# Altium footprint library Package_QFP.PcbLib: 99 footprints (part 4 of 7)
Each footprint in its own frame and in the unit in brackets; x right, y up, seen from the top. Pads: shape width x height; smd on the part's side, far side on the other; paste and mask are expansions set on the pad; w line width, h text height; cw(c..) or ccw(c..) is an arc to the next point about the centre after c.
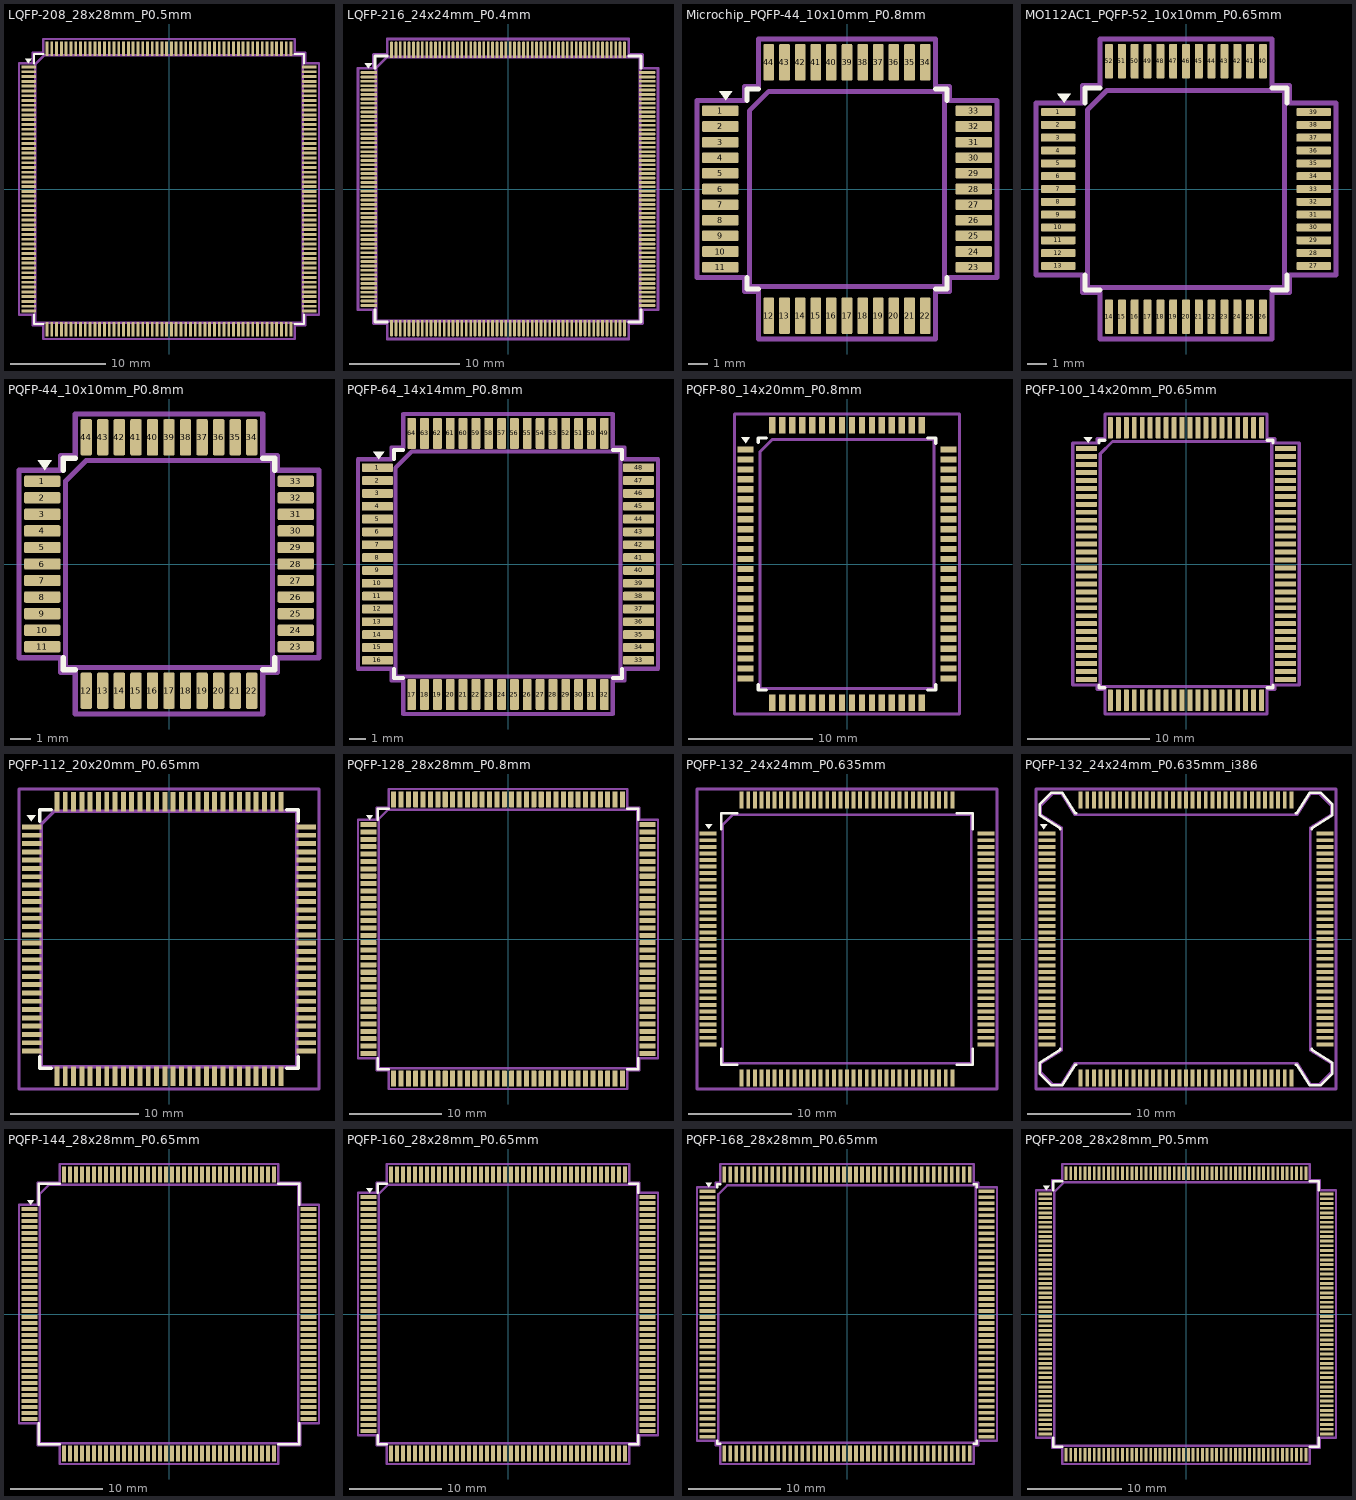
[diagram p3: the footprints below, top view; thin cyan lines are the x and y axes]

## LQFP-208_28x28mm_P0.5mm [mm]
pads (208):
  rrect25% 1.5x0.3 smd: 1(-14.675,12.75) 2(-14.675,12.25) 3(-14.675,11.75) 4(-14.675,11.25) 5(-14.675,10.75) 6(-14.675,10.25) 7(-14.675,9.75) 8(-14.675,9.25) 9(-14.675,8.75) 10(-14.675,8.25) 11(-14.675,7.75) 12(-14.675,7.25) 13(-14.675,6.75) 14(-14.675,6.25) 15(-14.675,5.75) 16(-14.675,5.25) 17(-14.675,4.75) 18(-14.675,4.25) 19(-14.675,3.75) 20(-14.675,3.25) 21(-14.675,2.75) 22(-14.675,2.25) 23(-14.675,1.75) 24(-14.675,1.25) 25(-14.675,0.75) 26(-14.675,0.25) 27(-14.675,-0.25) 28(-14.675,-0.75) 29(-14.675,-1.25) 30(-14.675,-1.75) 31(-14.675,-2.25) 32(-14.675,-2.75) 33(-14.675,-3.25) 34(-14.675,-3.75) 35(-14.675,-4.25) 36(-14.675,-4.75) 37(-14.675,-5.25) 38(-14.675,-5.75) 39(-14.675,-6.25) 40(-14.675,-6.75) 41(-14.675,-7.25) 42(-14.675,-7.75) 43(-14.675,-8.25) 44(-14.675,-8.75) 45(-14.675,-9.25) 46(-14.675,-9.75) 47(-14.675,-10.25) 48(-14.675,-10.75) 49(-14.675,-11.25) 50(-14.675,-11.75) 51(-14.675,-12.25) 52(-14.675,-12.75) 105(14.675,-12.75) 106(14.675,-12.25) 107(14.675,-11.75) 108(14.675,-11.25) 109(14.675,-10.75) 110(14.675,-10.25) 111(14.675,-9.75) 112(14.675,-9.25) 113(14.675,-8.75) 114(14.675,-8.25) 115(14.675,-7.75) 116(14.675,-7.25) 117(14.675,-6.75) 118(14.675,-6.25) 119(14.675,-5.75) 120(14.675,-5.25) 121(14.675,-4.75) 122(14.675,-4.25) 123(14.675,-3.75) 124(14.675,-3.25) 125(14.675,-2.75) 126(14.675,-2.25) 127(14.675,-1.75) 128(14.675,-1.25) 129(14.675,-0.75) 130(14.675,-0.25) 131(14.675,0.25) 132(14.675,0.75) 133(14.675,1.25) 134(14.675,1.75) 135(14.675,2.25) 136(14.675,2.75) 137(14.675,3.25) 138(14.675,3.75) 139(14.675,4.25) 140(14.675,4.75) 141(14.675,5.25) 142(14.675,5.75) 143(14.675,6.25) 144(14.675,6.75) 145(14.675,7.25) 146(14.675,7.75) 147(14.675,8.25) 148(14.675,8.75) 149(14.675,9.25) 150(14.675,9.75) 151(14.675,10.25) 152(14.675,10.75) 153(14.675,11.25) 154(14.675,11.75) 155(14.675,12.25) 156(14.675,12.75)
  rrect25% 0.3x1.5 smd: 53(-12.75,-14.675) 54(-12.25,-14.675) 55(-11.75,-14.675) 56(-11.25,-14.675) 57(-10.75,-14.675) 58(-10.25,-14.675) 59(-9.75,-14.675) 60(-9.25,-14.675) 61(-8.75,-14.675) 62(-8.25,-14.675) 63(-7.75,-14.675) 64(-7.25,-14.675) 65(-6.75,-14.675) 66(-6.25,-14.675) 67(-5.75,-14.675) 68(-5.25,-14.675) 69(-4.75,-14.675) 70(-4.25,-14.675) 71(-3.75,-14.675) 72(-3.25,-14.675) 73(-2.75,-14.675) 74(-2.25,-14.675) 75(-1.75,-14.675) 76(-1.25,-14.675) 77(-0.75,-14.675) 78(-0.25,-14.675) 79(0.25,-14.675) 80(0.75,-14.675) 81(1.25,-14.675) 82(1.75,-14.675) 83(2.25,-14.675) 84(2.75,-14.675) 85(3.25,-14.675) 86(3.75,-14.675) 87(4.25,-14.675) 88(4.75,-14.675) 89(5.25,-14.675) 90(5.75,-14.675) 91(6.25,-14.675) 92(6.75,-14.675) 93(7.25,-14.675) 94(7.75,-14.675) 95(8.25,-14.675) 96(8.75,-14.675) 97(9.25,-14.675) 98(9.75,-14.675) 99(10.25,-14.675) 100(10.75,-14.675) 101(11.25,-14.675) 102(11.75,-14.675) 103(12.25,-14.675) 104(12.75,-14.675) 157(12.75,14.675) 158(12.25,14.675) 159(11.75,14.675) 160(11.25,14.675) 161(10.75,14.675) 162(10.25,14.675) 163(9.75,14.675) 164(9.25,14.675) 165(8.75,14.675) 166(8.25,14.675) 167(7.75,14.675) 168(7.25,14.675) 169(6.75,14.675) 170(6.25,14.675) 171(5.75,14.675) 172(5.25,14.675) 173(4.75,14.675) 174(4.25,14.675) 175(3.75,14.675) 176(3.25,14.675) 177(2.75,14.675) 178(2.25,14.675) 179(1.75,14.675) 180(1.25,14.675) 181(0.75,14.675) 182(0.25,14.675) 183(-0.25,14.675) 184(-0.75,14.675) 185(-1.25,14.675) 186(-1.75,14.675) 187(-2.25,14.675) 188(-2.75,14.675) 189(-3.25,14.675) 190(-3.75,14.675) 191(-4.25,14.675) 192(-4.75,14.675) 193(-5.25,14.675) 194(-5.75,14.675) 195(-6.25,14.675) 196(-6.75,14.675) 197(-7.25,14.675) 198(-7.75,14.675) 199(-8.25,14.675) 200(-8.75,14.675) 201(-9.25,14.675) 202(-9.75,14.675) 203(-10.25,14.675) 204(-10.75,14.675) 205(-11.25,14.675) 206(-11.75,14.675) 207(-12.25,14.675) 208(-12.75,14.675)
F.SilkS:
  region: -14.713,13.16 -15.052,13.63 -14.373,13.63
  lines w0.254: -14.11,-13.16 -14.11,-14.11 -13.16,-14.11 ; -14.11,13.16 -14.11,14.11 -13.16,14.11 ; 13.16,-14.11 14.11,-14.11 14.11,-13.16 ; 13.16,14.11 14.11,14.11 14.11,13.16
Top Assembly:
  lines w0.254: -14,-14 14,-14 14,14 -13,14 -14,13 -14,-14
  text "'.Designator'" at -4.047,-0.84 h1
Top Courtyard:
  lines w0.254: -15.68,-13.15 -14.25,-13.15 -14.25,-14.25 -13.15,-14.25 -13.15,-15.68 13.15,-15.68 13.15,-14.25 14.25,-14.25 14.25,-13.15 15.68,-13.15 15.68,13.15 14.25,13.15 14.25,14.25 13.15,14.25 13.15,15.68 -13.15,15.68 -13.15,14.25 -14.25,14.25 -14.25,13.15 -15.68,13.15 -15.68,-13.15
Top Designator:
  text ".Designator" at -7.618,-0.508 h1.52

## LQFP-216_24x24mm_P0.4mm [mm]
pads (216):
  rrect25% 1.475x0.25 smd: 1(-12.662,10.6) 2(-12.662,10.2) 3(-12.662,9.8) 4(-12.662,9.4) 5(-12.662,9) 6(-12.662,8.6) 7(-12.662,8.2) 8(-12.662,7.8) 9(-12.662,7.4) 10(-12.662,7) 11(-12.662,6.6) 12(-12.662,6.2) 13(-12.662,5.8) 14(-12.662,5.4) 15(-12.662,5) 16(-12.662,4.6) 17(-12.662,4.2) 18(-12.662,3.8) 19(-12.662,3.4) 20(-12.662,3) 21(-12.662,2.6) 22(-12.662,2.2) 23(-12.662,1.8) 24(-12.662,1.4) 25(-12.662,1) 26(-12.662,0.6) 27(-12.662,0.2) 28(-12.662,-0.2) 29(-12.662,-0.6) 30(-12.662,-1) 31(-12.662,-1.4) 32(-12.662,-1.8) 33(-12.662,-2.2) 34(-12.662,-2.6) 35(-12.662,-3) 36(-12.662,-3.4) 37(-12.662,-3.8) 38(-12.662,-4.2) 39(-12.662,-4.6) 40(-12.662,-5) 41(-12.662,-5.4) 42(-12.662,-5.8) 43(-12.662,-6.2) 44(-12.662,-6.6) 45(-12.662,-7) 46(-12.662,-7.4) 47(-12.662,-7.8) 48(-12.662,-8.2) 49(-12.662,-8.6) 50(-12.662,-9) 51(-12.662,-9.4) 52(-12.662,-9.8) 53(-12.662,-10.2) 54(-12.662,-10.6) 109(12.662,-10.6) 110(12.662,-10.2) 111(12.662,-9.8) 112(12.662,-9.4) 113(12.662,-9) 114(12.662,-8.6) 115(12.662,-8.2) 116(12.662,-7.8) 117(12.662,-7.4) 118(12.662,-7) 119(12.662,-6.6) 120(12.662,-6.2) 121(12.662,-5.8) 122(12.662,-5.4) 123(12.662,-5) 124(12.662,-4.6) 125(12.662,-4.2) 126(12.662,-3.8) 127(12.662,-3.4) 128(12.662,-3) 129(12.662,-2.6) 130(12.662,-2.2) 131(12.662,-1.8) 132(12.662,-1.4) 133(12.662,-1) 134(12.662,-0.6) 135(12.662,-0.2) 136(12.662,0.2) 137(12.662,0.6) 138(12.662,1) 139(12.662,1.4) 140(12.662,1.8) 141(12.662,2.2) 142(12.662,2.6) 143(12.662,3) 144(12.662,3.4) 145(12.662,3.8) 146(12.662,4.2) 147(12.662,4.6) 148(12.662,5) 149(12.662,5.4) 150(12.662,5.8) 151(12.662,6.2) 152(12.662,6.6) 153(12.662,7) 154(12.662,7.4) 155(12.662,7.8) 156(12.662,8.2) 157(12.662,8.6) 158(12.662,9) 159(12.662,9.4) 160(12.662,9.8) 161(12.662,10.2) 162(12.662,10.6)
  rrect25% 0.25x1.475 smd: 55(-10.6,-12.662) 56(-10.2,-12.662) 57(-9.8,-12.662) 58(-9.4,-12.662) 59(-9,-12.662) 60(-8.6,-12.662) 61(-8.2,-12.662) 62(-7.8,-12.662) 63(-7.4,-12.662) 64(-7,-12.662) 65(-6.6,-12.662) 66(-6.2,-12.662) 67(-5.8,-12.662) 68(-5.4,-12.662) 69(-5,-12.662) 70(-4.6,-12.662) 71(-4.2,-12.662) 72(-3.8,-12.662) 73(-3.4,-12.662) 74(-3,-12.662) 75(-2.6,-12.662) 76(-2.2,-12.662) 77(-1.8,-12.662) 78(-1.4,-12.662) 79(-1,-12.662) 80(-0.6,-12.662) 81(-0.2,-12.662) 82(0.2,-12.662) 83(0.6,-12.662) 84(1,-12.662) 85(1.4,-12.662) 86(1.8,-12.662) 87(2.2,-12.662) 88(2.6,-12.662) 89(3,-12.662) 90(3.4,-12.662) 91(3.8,-12.662) 92(4.2,-12.662) 93(4.6,-12.662) 94(5,-12.662) 95(5.4,-12.662) 96(5.8,-12.662) 97(6.2,-12.662) 98(6.6,-12.662) 99(7,-12.662) 100(7.4,-12.662) 101(7.8,-12.662) 102(8.2,-12.662) 103(8.6,-12.662) 104(9,-12.662) 105(9.4,-12.662) 106(9.8,-12.662) 107(10.2,-12.662) 108(10.6,-12.662) 163(10.6,12.662) 164(10.2,12.662) 165(9.8,12.662) 166(9.4,12.662) 167(9,12.662) 168(8.6,12.662) 169(8.2,12.662) 170(7.8,12.662) 171(7.4,12.662) 172(7,12.662) 173(6.6,12.662) 174(6.2,12.662) 175(5.8,12.662) 176(5.4,12.662) 177(5,12.662) 178(4.6,12.662) 179(4.2,12.662) 180(3.8,12.662) 181(3.4,12.662) 182(3,12.662) 183(2.6,12.662) 184(2.2,12.662) 185(1.8,12.662) 186(1.4,12.662) 187(1,12.662) 188(0.6,12.662) 189(0.2,12.662) 190(-0.2,12.662) 191(-0.6,12.662) 192(-1,12.662) 193(-1.4,12.662) 194(-1.8,12.662) 195(-2.2,12.662) 196(-2.6,12.662) 197(-3,12.662) 198(-3.4,12.662) 199(-3.8,12.662) 200(-4.2,12.662) 201(-4.6,12.662) 202(-5,12.662) 203(-5.4,12.662) 204(-5.8,12.662) 205(-6.2,12.662) 206(-6.6,12.662) 207(-7,12.662) 208(-7.4,12.662) 209(-7.8,12.662) 210(-8.2,12.662) 211(-8.6,12.662) 212(-9,12.662) 213(-9.4,12.662) 214(-9.8,12.662) 215(-10.2,12.662) 216(-10.6,12.662)
F.SilkS:
  region: -12.7,10.985 -13.04,11.455 -12.36,11.455
  lines w0.254: -12.11,-10.985 -12.11,-12.11 -10.985,-12.11 ; -12.11,10.985 -12.11,12.11 -10.985,12.11 ; 10.985,-12.11 12.11,-12.11 12.11,-10.985 ; 10.985,12.11 12.11,12.11 12.11,10.985
Top Assembly:
  lines w0.254: -12,-12 12,-12 12,12 -11,12 -12,11 -12,-12
  text "'.Designator'" at -4.047,-0.84 h1
Top Courtyard:
  lines w0.254: -13.65,-10.98 -12.25,-10.98 -12.25,-12.25 -10.98,-12.25 -10.98,-13.65 10.98,-13.65 10.98,-12.25 12.25,-12.25 12.25,-10.98 13.65,-10.98 13.65,10.98 12.25,10.98 12.25,12.25 10.98,12.25 10.98,13.65 -10.98,13.65 -10.98,12.25 -12.25,12.25 -12.25,10.98 -13.65,10.98 -13.65,-10.98
Top Designator:
  text ".Designator" at -7.618,-0.508 h1.52

## Microchip_PQFP-44_10x10mm_P0.8mm [mm]
pads (44):
  rrect25% 1.875x0.55 smd: 1(-6.488,4) 2(-6.488,3.2) 3(-6.488,2.4) 4(-6.488,1.6) 5(-6.488,0.8) 6(-6.488,0) 7(-6.488,-0.8) 8(-6.488,-1.6) 9(-6.488,-2.4) 10(-6.488,-3.2) 11(-6.488,-4) 23(6.488,-4) 24(6.488,-3.2) 25(6.488,-2.4) 26(6.488,-1.6) 27(6.488,-0.8) 28(6.488,0) 29(6.488,0.8) 30(6.488,1.6) 31(6.488,2.4) 32(6.488,3.2) 33(6.488,4)
  rrect25% 0.55x1.875 smd: 12(-4,-6.488) 13(-3.2,-6.488) 14(-2.4,-6.488) 15(-1.6,-6.488) 16(-0.8,-6.488) 17(0,-6.488) 18(0.8,-6.488) 19(1.6,-6.488) 20(2.4,-6.488) 21(3.2,-6.488) 22(4,-6.488) 34(4,6.488) 35(3.2,6.488) 36(2.4,6.488) 37(1.6,6.488) 38(0.8,6.488) 39(0,6.488) 40(-0.8,6.488) 41(-1.6,6.488) 42(-2.4,6.488) 43(-3.2,6.488) 44(-4,6.488)
F.SilkS:
  region: -6.212,4.535 -6.552,5.005 -5.873,5.005
  lines w0.254: -5.11,-4.535 -5.11,-5.11 -4.535,-5.11 ; -5.11,4.535 -5.11,5.11 -4.535,5.11 ; 4.535,-5.11 5.11,-5.11 5.11,-4.535 ; 4.535,5.11 5.11,5.11 5.11,4.535
Top Assembly:
  lines w0.254: -5,-5 5,-5 5,5 -4,5 -5,4 -5,-5
  text "'.Designator'" at -4.047,-0.84 h1
Top Courtyard:
  lines w0.254: -7.68,-4.53 -5.25,-4.53 -5.25,-5.25 -4.53,-5.25 -4.53,-7.68 4.53,-7.68 4.53,-5.25 5.25,-5.25 5.25,-4.53 7.68,-4.53 7.68,4.53 5.25,4.53 5.25,5.25 4.53,5.25 4.53,7.68 -4.53,7.68 -4.53,5.25 -5.25,5.25 -5.25,4.53 -7.68,4.53 -7.68,-4.53
Top Designator:
  text ".Designator" at -7.618,-0.508 h1.52

## MO112AC1_PQFP-52_10x10mm_P0.65mm [mm]
pads (52):
  rrect25% 1.75x0.4 smd: 1(-6.475,3.9) 2(-6.475,3.25) 3(-6.475,2.6) 4(-6.475,1.95) 5(-6.475,1.3) 6(-6.475,0.65) 7(-6.475,0) 8(-6.475,-0.65) 9(-6.475,-1.3) 10(-6.475,-1.95) 11(-6.475,-2.6) 12(-6.475,-3.25) 13(-6.475,-3.9) 27(6.475,-3.9) 28(6.475,-3.25) 29(6.475,-2.6) 30(6.475,-1.95) 31(6.475,-1.3) 32(6.475,-0.65) 33(6.475,0) 34(6.475,0.65) 35(6.475,1.3) 36(6.475,1.95) 37(6.475,2.6) 38(6.475,3.25) 39(6.475,3.9)
  rrect25% 0.4x1.75 smd: 14(-3.9,-6.475) 15(-3.25,-6.475) 16(-2.6,-6.475) 17(-1.95,-6.475) 18(-1.3,-6.475) 19(-0.65,-6.475) 20(0,-6.475) 21(0.65,-6.475) 22(1.3,-6.475) 23(1.95,-6.475) 24(2.6,-6.475) 25(3.25,-6.475) 26(3.9,-6.475) 40(3.9,6.475) 41(3.25,6.475) 42(2.6,6.475) 43(1.95,6.475) 44(1.3,6.475) 45(0.65,6.475) 46(0,6.475) 47(-0.65,6.475) 48(-1.3,6.475) 49(-1.95,6.475) 50(-2.6,6.475) 51(-3.25,6.475) 52(-3.9,6.475)
F.SilkS:
  region: -6.175,4.36 -6.515,4.83 -5.835,4.83
  lines w0.254: -5.11,-4.36 -5.11,-5.11 -4.36,-5.11 ; -5.11,4.36 -5.11,5.11 -4.36,5.11 ; 4.36,-5.11 5.11,-5.11 5.11,-4.36 ; 4.36,5.11 5.11,5.11 5.11,4.36
Top Assembly:
  lines w0.254: -5,-5 5,-5 5,5 -4,5 -5,4 -5,-5
  text "'.Designator'" at -4.047,-0.84 h1
Top Courtyard:
  lines w0.254: -7.6,-4.35 -5.25,-4.35 -5.25,-5.25 -4.35,-5.25 -4.35,-7.6 4.35,-7.6 4.35,-5.25 5.25,-5.25 5.25,-4.35 7.6,-4.35 7.6,4.35 5.25,4.35 5.25,5.25 4.35,5.25 4.35,7.6 -4.35,7.6 -4.35,5.25 -5.25,5.25 -5.25,4.35 -7.6,4.35 -7.6,-4.35
Top Designator:
  text ".Designator" at -7.618,-0.508 h1.52

## PQFP-44_10x10mm_P0.8mm [mm]
pads (44):
  rrect25% 1.75x0.55 smd: 1(-6.125,4) 2(-6.125,3.2) 3(-6.125,2.4) 4(-6.125,1.6) 5(-6.125,0.8) 6(-6.125,0) 7(-6.125,-0.8) 8(-6.125,-1.6) 9(-6.125,-2.4) 10(-6.125,-3.2) 11(-6.125,-4) 23(6.125,-4) 24(6.125,-3.2) 25(6.125,-2.4) 26(6.125,-1.6) 27(6.125,-0.8) 28(6.125,0) 29(6.125,0.8) 30(6.125,1.6) 31(6.125,2.4) 32(6.125,3.2) 33(6.125,4)
  rrect25% 0.55x1.75 smd: 12(-4,-6.125) 13(-3.2,-6.125) 14(-2.4,-6.125) 15(-1.6,-6.125) 16(-0.8,-6.125) 17(0,-6.125) 18(0.8,-6.125) 19(1.6,-6.125) 20(2.4,-6.125) 21(3.2,-6.125) 22(4,-6.125) 34(4,6.125) 35(3.2,6.125) 36(2.4,6.125) 37(1.6,6.125) 38(0.8,6.125) 39(0,6.125) 40(-0.8,6.125) 41(-1.6,6.125) 42(-2.4,6.125) 43(-3.2,6.125) 44(-4,6.125)
F.SilkS:
  region: -6,4.535 -6.34,5.005 -5.66,5.005
  lines w0.254: -5.11,-4.535 -5.11,-5.11 -4.535,-5.11 ; -5.11,4.535 -5.11,5.11 -4.535,5.11 ; 4.535,-5.11 5.11,-5.11 5.11,-4.535 ; 4.535,5.11 5.11,5.11 5.11,4.535
Top Assembly:
  lines w0.254: -5,-5 5,-5 5,5 -4,5 -5,4 -5,-5
  text "'.Designator'" at -4.047,-0.84 h1
Top Courtyard:
  lines w0.254: -7.25,-4.53 -5.25,-4.53 -5.25,-5.25 -4.53,-5.25 -4.53,-7.25 4.53,-7.25 4.53,-5.25 5.25,-5.25 5.25,-4.53 7.25,-4.53 7.25,4.53 5.25,4.53 5.25,5.25 4.53,5.25 4.53,7.25 -4.53,7.25 -4.53,5.25 -5.25,5.25 -5.25,4.53 -7.25,4.53 -7.25,-4.53
Top Designator:
  text ".Designator" at -7.618,-0.508 h1.52

## PQFP-64_14x14mm_P0.8mm [mm]
pads (64):
  rrect25% 1.925x0.55 smd: 1(-8.137,6) 2(-8.137,5.2) 3(-8.137,4.4) 4(-8.137,3.6) 5(-8.137,2.8) 6(-8.137,2) 7(-8.137,1.2) 8(-8.137,0.4) 9(-8.137,-0.4) 10(-8.137,-1.2) 11(-8.137,-2) 12(-8.137,-2.8) 13(-8.137,-3.6) 14(-8.137,-4.4) 15(-8.137,-5.2) 16(-8.137,-6) 33(8.137,-6) 34(8.137,-5.2) 35(8.137,-4.4) 36(8.137,-3.6) 37(8.137,-2.8) 38(8.137,-2) 39(8.137,-1.2) 40(8.137,-0.4) 41(8.137,0.4) 42(8.137,1.2) 43(8.137,2) 44(8.137,2.8) 45(8.137,3.6) 46(8.137,4.4) 47(8.137,5.2) 48(8.137,6)
  rrect25% 0.55x1.925 smd: 17(-6,-8.137) 18(-5.2,-8.137) 19(-4.4,-8.137) 20(-3.6,-8.137) 21(-2.8,-8.137) 22(-2,-8.137) 23(-1.2,-8.137) 24(-0.4,-8.137) 25(0.4,-8.137) 26(1.2,-8.137) 27(2,-8.137) 28(2.8,-8.137) 29(3.6,-8.137) 30(4.4,-8.137) 31(5.2,-8.137) 32(6,-8.137) 49(6,8.137) 50(5.2,8.137) 51(4.4,8.137) 52(3.6,8.137) 53(2.8,8.137) 54(2,8.137) 55(1.2,8.137) 56(0.4,8.137) 57(-0.4,8.137) 58(-1.2,8.137) 59(-2,8.137) 60(-2.8,8.137) 61(-3.6,8.137) 62(-4.4,8.137) 63(-5.2,8.137) 64(-6,8.137)
F.SilkS:
  region: -8.05,6.535 -8.39,7.005 -7.71,7.005
  lines w0.254: -7.11,-6.535 -7.11,-7.11 -6.535,-7.11 ; -7.11,6.535 -7.11,7.11 -6.535,7.11 ; 6.535,-7.11 7.11,-7.11 7.11,-6.535 ; 6.535,7.11 7.11,7.11 7.11,6.535
Top Assembly:
  lines w0.254: -7,-7 7,-7 7,7 -6,7 -7,6 -7,-7
  text "'.Designator'" at -4.047,-0.84 h1
Top Courtyard:
  lines w0.254: -9.35,-6.53 -7.25,-6.53 -7.25,-7.25 -6.53,-7.25 -6.53,-9.35 6.53,-9.35 6.53,-7.25 7.25,-7.25 7.25,-6.53 9.35,-6.53 9.35,6.53 7.25,6.53 7.25,7.25 6.53,7.25 6.53,9.35 -6.53,9.35 -6.53,7.25 -7.25,7.25 -7.25,6.53 -9.35,6.53 -9.35,-6.53
Top Designator:
  text ".Designator" at -7.618,-0.508 h1.52

## PQFP-80_14x20mm_P0.8mm [mm]
pads (80):
  rect 1.3x0.5 smd: 1(-8.15,9.2) 2(-8.15,8.4) 3(-8.15,7.6) 4(-8.15,6.8) 5(-8.15,6) 6(-8.15,5.2) 7(-8.15,4.4) 8(-8.15,3.6) 9(-8.15,2.8) 10(-8.15,2) 11(-8.15,1.2) 12(-8.15,0.4) 13(-8.15,-0.4) 14(-8.15,-1.2) 15(-8.15,-2) 16(-8.15,-2.8) 17(-8.15,-3.6) 18(-8.15,-4.4) 19(-8.15,-5.2) 20(-8.15,-6) 21(-8.15,-6.8) 22(-8.15,-7.6) 23(-8.15,-8.4) 24(-8.15,-9.2) 41(8.15,-9.2) 42(8.15,-8.4) 43(8.15,-7.6) 44(8.15,-6.8) 45(8.15,-6) 46(8.15,-5.2) 47(8.15,-4.4) 48(8.15,-3.6) 49(8.15,-2.8) 50(8.15,-2) 51(8.15,-1.2) 52(8.15,-0.4) 53(8.15,0.4) 54(8.15,1.2) 55(8.15,2) 56(8.15,2.8) 57(8.15,3.6) 58(8.15,4.4) 59(8.15,5.2) 60(8.15,6) 61(8.15,6.8) 62(8.15,7.6) 63(8.15,8.4) 64(8.15,9.2)
  rect 0.5x1.3 smd: 25(-6,-11.15) 26(-5.2,-11.15) 27(-4.4,-11.15) 28(-3.6,-11.15) 29(-2.8,-11.15) 30(-2,-11.15) 31(-1.2,-11.15) 32(-0.4,-11.15) 33(0.4,-11.15) 34(1.2,-11.15) 35(2,-11.15) 36(2.8,-11.15) 37(3.6,-11.15) 38(4.4,-11.15) 39(5.2,-11.15) 40(6,-11.15) 65(6,11.15) 66(5.2,11.15) 67(4.4,11.15) 68(3.6,11.15) 69(2.8,11.15) 70(2,11.15) 71(1.2,11.15) 72(0.4,11.15) 73(-0.4,11.15) 74(-1.2,11.15) 75(-2,11.15) 76(-2.8,11.15) 77(-3.6,11.15) 78(-4.4,11.15) 79(-5.2,11.15) 80(-6,11.15)
F.SilkS:
  region: -8.145,9.72 -8.485,10.19 -7.805,10.19
  lines w0.254: -7.125,-9.675 -7.125,-10.125 -6.475,-10.125 ; -7.125,9.775 -7.125,10.125 -6.475,10.125 ; 6.475,-10.125 7.125,-10.125 7.125,-9.675 ; 6.475,10.125 7.125,10.125 7.125,9.675
Top Assembly:
  lines w0.254: -7,-10 7,-10 7,10 -6,10 -7,9 -7,-10
  text "'.Designator'" at -4.047,-0.84 h1
Top Courtyard:
  lines w0.254: -9.05,-12.05 9.05,-12.05 9.05,12.05 -9.05,12.05 -9.05,-12.05
Top Designator:
  text ".Designator" at -7.618,-0.508 h1.52

## PQFP-100_14x20mm_P0.65mm [mm]
pads (100):
  rrect25% 1.75x0.4 smd: 1(-8.125,9.425) 2(-8.125,8.775) 3(-8.125,8.125) 4(-8.125,7.475) 5(-8.125,6.825) 6(-8.125,6.175) 7(-8.125,5.525) 8(-8.125,4.875) 9(-8.125,4.225) 10(-8.125,3.575) 11(-8.125,2.925) 12(-8.125,2.275) 13(-8.125,1.625) 14(-8.125,0.975) 15(-8.125,0.325) 16(-8.125,-0.325) 17(-8.125,-0.975) 18(-8.125,-1.625) 19(-8.125,-2.275) 20(-8.125,-2.925) 21(-8.125,-3.575) 22(-8.125,-4.225) 23(-8.125,-4.875) 24(-8.125,-5.525) 25(-8.125,-6.175) 26(-8.125,-6.825) 27(-8.125,-7.475) 28(-8.125,-8.125) 29(-8.125,-8.775) 30(-8.125,-9.425) 51(8.125,-9.425) 52(8.125,-8.775) 53(8.125,-8.125) 54(8.125,-7.475) 55(8.125,-6.825) 56(8.125,-6.175) 57(8.125,-5.525) 58(8.125,-4.875) 59(8.125,-4.225) 60(8.125,-3.575) 61(8.125,-2.925) 62(8.125,-2.275) 63(8.125,-1.625) 64(8.125,-0.975) 65(8.125,-0.325) 66(8.125,0.325) 67(8.125,0.975) 68(8.125,1.625) 69(8.125,2.275) 70(8.125,2.925) 71(8.125,3.575) 72(8.125,4.225) 73(8.125,4.875) 74(8.125,5.525) 75(8.125,6.175) 76(8.125,6.825) 77(8.125,7.475) 78(8.125,8.125) 79(8.125,8.775) 80(8.125,9.425)
  rrect25% 0.4x1.75 smd: 31(-6.175,-11.125) 32(-5.525,-11.125) 33(-4.875,-11.125) 34(-4.225,-11.125) 35(-3.575,-11.125) 36(-2.925,-11.125) 37(-2.275,-11.125) 38(-1.625,-11.125) 39(-0.975,-11.125) 40(-0.325,-11.125) 41(0.325,-11.125) 42(0.975,-11.125) 43(1.625,-11.125) 44(2.275,-11.125) 45(2.925,-11.125) 46(3.575,-11.125) 47(4.225,-11.125) 48(4.875,-11.125) 49(5.525,-11.125) 50(6.175,-11.125) 81(6.175,11.125) 82(5.525,11.125) 83(4.875,11.125) 84(4.225,11.125) 85(3.575,11.125) 86(2.925,11.125) 87(2.275,11.125) 88(1.625,11.125) 89(0.975,11.125) 90(0.325,11.125) 91(-0.325,11.125) 92(-0.975,11.125) 93(-1.625,11.125) 94(-2.275,11.125) 95(-2.925,11.125) 96(-3.575,11.125) 97(-4.225,11.125) 98(-4.875,11.125) 99(-5.525,11.125) 100(-6.175,11.125)
F.SilkS:
  region: -8,9.885 -8.34,10.355 -7.66,10.355
  lines w0.254: -7.11,-9.885 -7.11,-10.11 -6.635,-10.11 ; -7.11,9.885 -7.11,10.11 -6.635,10.11 ; 6.635,-10.11 7.11,-10.11 7.11,-9.885 ; 6.635,10.11 7.11,10.11 7.11,9.885
Top Assembly:
  lines w0.254: -7,-10 7,-10 7,10 -6,10 -7,9 -7,-10
  text "'.Designator'" at -4.047,-0.84 h1
Top Courtyard:
  lines w0.254: -9.25,-9.88 -7.25,-9.88 -7.25,-10.25 -6.63,-10.25 -6.63,-12.25 6.63,-12.25 6.63,-10.25 7.25,-10.25 7.25,-9.88 9.25,-9.88 9.25,9.88 7.25,9.88 7.25,10.25 6.63,10.25 6.63,12.25 -6.63,12.25 -6.63,10.25 -7.25,10.25 -7.25,9.88 -9.25,9.88 -9.25,-9.88
Top Designator:
  text ".Designator" at -7.618,-0.508 h1.52

## PQFP-112_20x20mm_P0.65mm [mm]
pads (112):
  rect 1.5x0.38 smd: 1(-10.75,8.775) 2(-10.75,8.125) 3(-10.75,7.475) 4(-10.75,6.825) 5(-10.75,6.175) 6(-10.75,5.525) 7(-10.75,4.875) 8(-10.75,4.225) 9(-10.75,3.575) 10(-10.75,2.925) 11(-10.75,2.275) 12(-10.75,1.625) 13(-10.75,0.975) 14(-10.75,0.325) 15(-10.75,-0.325) 16(-10.75,-0.975) 17(-10.75,-1.625) 18(-10.75,-2.275) 19(-10.75,-2.925) 20(-10.75,-3.575) 21(-10.75,-4.225) 22(-10.75,-4.875) 23(-10.75,-5.525) 24(-10.75,-6.175) 25(-10.75,-6.825) 26(-10.75,-7.475) 27(-10.75,-8.125) 28(-10.75,-8.775) 57(10.75,-8.775) 58(10.75,-8.125) 59(10.75,-7.475) 60(10.75,-6.825) 61(10.75,-6.175) 62(10.75,-5.525) 63(10.75,-4.875) 64(10.75,-4.225) 65(10.75,-3.575) 66(10.75,-2.925) 67(10.75,-2.275) 68(10.75,-1.625) 69(10.75,-0.975) 70(10.75,-0.325) 71(10.75,0.325) 72(10.75,0.975) 73(10.75,1.625) 74(10.75,2.275) 75(10.75,2.925) 76(10.75,3.575) 77(10.75,4.225) 78(10.75,4.875) 79(10.75,5.525) 80(10.75,6.175) 81(10.75,6.825) 82(10.75,7.475) 83(10.75,8.125) 84(10.75,8.775)
  rect 0.38x1.5 smd: 29(-8.775,-10.75) 30(-8.125,-10.75) 31(-7.475,-10.75) 32(-6.825,-10.75) 33(-6.175,-10.75) 34(-5.525,-10.75) 35(-4.875,-10.75) 36(-4.225,-10.75) 37(-3.575,-10.75) 38(-2.925,-10.75) 39(-2.275,-10.75) 40(-1.625,-10.75) 41(-0.975,-10.75) 42(-0.325,-10.75) 43(0.325,-10.75) 44(0.975,-10.75) 45(1.625,-10.75) 46(2.275,-10.75) 47(2.925,-10.75) 48(3.575,-10.75) 49(4.225,-10.75) 50(4.875,-10.75) 51(5.525,-10.75) 52(6.175,-10.75) 53(6.825,-10.75) 54(7.475,-10.75) 55(8.125,-10.75) 56(8.775,-10.75) 85(8.775,10.75) 86(8.125,10.75) 87(7.475,10.75) 88(6.825,10.75) 89(6.175,10.75) 90(5.525,10.75) 91(4.875,10.75) 92(4.225,10.75) 93(3.575,10.75) 94(2.925,10.75) 95(2.275,10.75) 96(1.625,10.75) 97(0.975,10.75) 98(0.325,10.75) 99(-0.325,10.75) 100(-0.975,10.75) 101(-1.625,10.75) 102(-2.275,10.75) 103(-2.925,10.75) 104(-3.575,10.75) 105(-4.225,10.75) 106(-4.875,10.75) 107(-5.525,10.75) 108(-6.175,10.75) 109(-6.825,10.75) 110(-7.475,10.75) 111(-8.125,10.75) 112(-8.775,10.75)
F.SilkS:
  region: -10.785,9.23 -11.125,9.7 -10.445,9.7
  lines w0.254: -10.12,-9.2 -10.12,-10.12 -9.2,-10.12 ; -10.12,9.2 -10.12,10.12 -9.2,10.12 ; 9.2,-10.12 10.12,-10.12 10.12,-9.2 ; 9.2,10.12 10.12,10.12 10.12,9.2
Top Assembly:
  lines w0.254: -10,-10 10,-10 10,10 -9,10 -10,9 -10,-10
  text "'.Designator'" at -4.047,-0.84 h1
Top Courtyard:
  lines w0.254: -11.75,-11.75 11.75,-11.75 11.75,11.75 -11.75,11.75 -11.75,-11.75
Top Designator:
  text ".Designator" at -7.618,-0.508 h1.52

## PQFP-128_28x28mm_P0.8mm [mm]
pads (128):
  rrect25% 1.75x0.55 smd: 1(-15.125,12.4) 2(-15.125,11.6) 3(-15.125,10.8) 4(-15.125,10) 5(-15.125,9.2) 6(-15.125,8.4) 7(-15.125,7.6) 8(-15.125,6.8) 9(-15.125,6) 10(-15.125,5.2) 11(-15.125,4.4) 12(-15.125,3.6) 13(-15.125,2.8) 14(-15.125,2) 15(-15.125,1.2) 16(-15.125,0.4) 17(-15.125,-0.4) 18(-15.125,-1.2) 19(-15.125,-2) 20(-15.125,-2.8) 21(-15.125,-3.6) 22(-15.125,-4.4) 23(-15.125,-5.2) 24(-15.125,-6) 25(-15.125,-6.8) 26(-15.125,-7.6) 27(-15.125,-8.4) 28(-15.125,-9.2) 29(-15.125,-10) 30(-15.125,-10.8) 31(-15.125,-11.6) 32(-15.125,-12.4) 65(15.125,-12.4) 66(15.125,-11.6) 67(15.125,-10.8) 68(15.125,-10) 69(15.125,-9.2) 70(15.125,-8.4) 71(15.125,-7.6) 72(15.125,-6.8) 73(15.125,-6) 74(15.125,-5.2) 75(15.125,-4.4) 76(15.125,-3.6) 77(15.125,-2.8) 78(15.125,-2) 79(15.125,-1.2) 80(15.125,-0.4) 81(15.125,0.4) 82(15.125,1.2) 83(15.125,2) 84(15.125,2.8) 85(15.125,3.6) 86(15.125,4.4) 87(15.125,5.2) 88(15.125,6) 89(15.125,6.8) 90(15.125,7.6) 91(15.125,8.4) 92(15.125,9.2) 93(15.125,10) 94(15.125,10.8) 95(15.125,11.6) 96(15.125,12.4)
  rrect25% 0.55x1.75 smd: 33(-12.4,-15.125) 34(-11.6,-15.125) 35(-10.8,-15.125) 36(-10,-15.125) 37(-9.2,-15.125) 38(-8.4,-15.125) 39(-7.6,-15.125) 40(-6.8,-15.125) 41(-6,-15.125) 42(-5.2,-15.125) 43(-4.4,-15.125) 44(-3.6,-15.125) 45(-2.8,-15.125) 46(-2,-15.125) 47(-1.2,-15.125) 48(-0.4,-15.125) 49(0.4,-15.125) 50(1.2,-15.125) 51(2,-15.125) 52(2.8,-15.125) 53(3.6,-15.125) 54(4.4,-15.125) 55(5.2,-15.125) 56(6,-15.125) 57(6.8,-15.125) 58(7.6,-15.125) 59(8.4,-15.125) 60(9.2,-15.125) 61(10,-15.125) 62(10.8,-15.125) 63(11.6,-15.125) 64(12.4,-15.125) 97(12.4,15.125) 98(11.6,15.125) 99(10.8,15.125) 100(10,15.125) 101(9.2,15.125) 102(8.4,15.125) 103(7.6,15.125) 104(6.8,15.125) 105(6,15.125) 106(5.2,15.125) 107(4.4,15.125) 108(3.6,15.125) 109(2.8,15.125) 110(2,15.125) 111(1.2,15.125) 112(0.4,15.125) 113(-0.4,15.125) 114(-1.2,15.125) 115(-2,15.125) 116(-2.8,15.125) 117(-3.6,15.125) 118(-4.4,15.125) 119(-5.2,15.125) 120(-6,15.125) 121(-6.8,15.125) 122(-7.6,15.125) 123(-8.4,15.125) 124(-9.2,15.125) 125(-10,15.125) 126(-10.8,15.125) 127(-11.6,15.125) 128(-12.4,15.125)
F.SilkS:
  region: -15,12.935 -15.34,13.405 -14.66,13.405
  lines w0.254: -14.11,-12.935 -14.11,-14.11 -12.935,-14.11 ; -14.11,12.935 -14.11,14.11 -12.935,14.11 ; 12.935,-14.11 14.11,-14.11 14.11,-12.935 ; 12.935,14.11 14.11,14.11 14.11,12.935
Top Assembly:
  lines w0.254: -14,-14 14,-14 14,14 -13,14 -14,13 -14,-14
  text "'.Designator'" at -4.047,-0.84 h1
Top Courtyard:
  lines w0.254: -16.25,-12.93 -14.25,-12.93 -14.25,-14.25 -12.93,-14.25 -12.93,-16.25 12.93,-16.25 12.93,-14.25 14.25,-14.25 14.25,-12.93 16.25,-12.93 16.25,12.93 14.25,12.93 14.25,14.25 12.93,14.25 12.93,16.25 -12.93,16.25 -12.93,14.25 -14.25,14.25 -14.25,12.93 -16.25,12.93 -16.25,-12.93
Top Designator:
  text ".Designator" at -7.618,-0.508 h1.52

## PQFP-132_24x24mm_P0.635mm [mm]
pads (132):
  rect 1.635x0.38 smd: 1(-13.4,10.16) 2(-13.4,9.525) 3(-13.4,8.89) 4(-13.4,8.255) 5(-13.4,7.62) 6(-13.4,6.985) 7(-13.4,6.35) 8(-13.4,5.715) 9(-13.4,5.08) 10(-13.4,4.445) 11(-13.4,3.81) 12(-13.4,3.175) 13(-13.4,2.54) 14(-13.4,1.905) 15(-13.4,1.27) 16(-13.4,0.635) 17(-13.4,0) 18(-13.4,-0.635) 19(-13.4,-1.27) 20(-13.4,-1.905) 21(-13.4,-2.54) 22(-13.4,-3.175) 23(-13.4,-3.81) 24(-13.4,-4.445) 25(-13.4,-5.08) 26(-13.4,-5.715) 27(-13.4,-6.35) 28(-13.4,-6.985) 29(-13.4,-7.62) 30(-13.4,-8.255) 31(-13.4,-8.89) 32(-13.4,-9.525) 33(-13.4,-10.16) 67(13.4,-10.16) 68(13.4,-9.525) 69(13.4,-8.89) 70(13.4,-8.255) 71(13.4,-7.62) 72(13.4,-6.985) 73(13.4,-6.35) 74(13.4,-5.715) 75(13.4,-5.08) 76(13.4,-4.445) 77(13.4,-3.81) 78(13.4,-3.175) 79(13.4,-2.54) 80(13.4,-1.905) 81(13.4,-1.27) 82(13.4,-0.635) 83(13.4,0) 84(13.4,0.635) 85(13.4,1.27) 86(13.4,1.905) 87(13.4,2.54) 88(13.4,3.175) 89(13.4,3.81) 90(13.4,4.445) 91(13.4,5.08) 92(13.4,5.715) 93(13.4,6.35) 94(13.4,6.985) 95(13.4,7.62) 96(13.4,8.255) 97(13.4,8.89) 98(13.4,9.525) 99(13.4,10.16)
  rect 0.38x1.635 smd: 34(-10.16,-13.4) 35(-9.525,-13.4) 36(-8.89,-13.4) 37(-8.255,-13.4) 38(-7.62,-13.4) 39(-6.985,-13.4) 40(-6.35,-13.4) 41(-5.715,-13.4) 42(-5.08,-13.4) 43(-4.445,-13.4) 44(-3.81,-13.4) 45(-3.175,-13.4) 46(-2.54,-13.4) 47(-1.905,-13.4) 48(-1.27,-13.4) 49(-0.635,-13.4) 50(0,-13.4) 51(0.635,-13.4) 52(1.27,-13.4) 53(1.905,-13.4) 54(2.54,-13.4) 55(3.175,-13.4) 56(3.81,-13.4) 57(4.445,-13.4) 58(5.08,-13.4) 59(5.715,-13.4) 60(6.35,-13.4) 61(6.985,-13.4) 62(7.62,-13.4) 63(8.255,-13.4) 64(8.89,-13.4) 65(9.525,-13.4) 66(10.16,-13.4) 100(10.16,13.4) 101(9.525,13.4) 102(8.89,13.4) 103(8.255,13.4) 104(7.62,13.4) 105(6.985,13.4) 106(6.35,13.4) 107(5.715,13.4) 108(5.08,13.4) 109(4.445,13.4) 110(3.81,13.4) 111(3.175,13.4) 112(2.54,13.4) 113(1.905,13.4) 114(1.27,13.4) 115(0.635,13.4) 116(0,13.4) 117(-0.635,13.4) 118(-1.27,13.4) 119(-1.905,13.4) 120(-2.54,13.4) 121(-3.175,13.4) 122(-3.81,13.4) 123(-4.445,13.4) 124(-5.08,13.4) 125(-5.715,13.4) 126(-6.35,13.4) 127(-6.985,13.4) 128(-7.62,13.4) 129(-8.255,13.4) 130(-8.89,13.4) 131(-9.525,13.4) 132(-10.16,13.4)
F.SilkS:
  region: -13.335,10.62 -13.675,11.09 -12.995,11.09
  lines w0.254: -12.12,-10.6 -12.12,-12.12 -10.6,-12.12 ; -12.12,10.6 -12.12,12.12 -10.6,12.12 ; 10.6,-12.12 12.12,-12.12 12.12,-10.6 ; 10.6,12.12 12.12,12.12 12.12,10.6
Top Assembly:
  lines w0.254: -12,-12 12,-12 12,12 -11,12 -12,11 -12,-12
  text "'.Designator'" at -4.047,-0.84 h1
Top Courtyard:
  lines w0.254: -14.47,-14.47 14.47,-14.47 14.47,14.47 -14.47,14.47 -14.47,-14.47
Top Designator:
  text ".Designator" at -7.618,-0.508 h1.52

## PQFP-132_24x24mm_P0.635mm_i386 [mm]
pads (132):
  rect 1.635x0.38 smd: 1(-13.4,10.16) 2(-13.4,9.525) 3(-13.4,8.89) 4(-13.4,8.255) 5(-13.4,7.62) 6(-13.4,6.985) 7(-13.4,6.35) 8(-13.4,5.715) 9(-13.4,5.08) 10(-13.4,4.445) 11(-13.4,3.81) 12(-13.4,3.175) 13(-13.4,2.54) 14(-13.4,1.905) 15(-13.4,1.27) 16(-13.4,0.635) 17(-13.4,0) 18(-13.4,-0.635) 19(-13.4,-1.27) 20(-13.4,-1.905) 21(-13.4,-2.54) 22(-13.4,-3.175) 23(-13.4,-3.81) 24(-13.4,-4.445) 25(-13.4,-5.08) 26(-13.4,-5.715) 27(-13.4,-6.35) 28(-13.4,-6.985) 29(-13.4,-7.62) 30(-13.4,-8.255) 31(-13.4,-8.89) 32(-13.4,-9.525) 33(-13.4,-10.16) 67(13.4,-10.16) 68(13.4,-9.525) 69(13.4,-8.89) 70(13.4,-8.255) 71(13.4,-7.62) 72(13.4,-6.985) 73(13.4,-6.35) 74(13.4,-5.715) 75(13.4,-5.08) 76(13.4,-4.445) 77(13.4,-3.81) 78(13.4,-3.175) 79(13.4,-2.54) 80(13.4,-1.905) 81(13.4,-1.27) 82(13.4,-0.635) 83(13.4,0) 84(13.4,0.635) 85(13.4,1.27) 86(13.4,1.905) 87(13.4,2.54) 88(13.4,3.175) 89(13.4,3.81) 90(13.4,4.445) 91(13.4,5.08) 92(13.4,5.715) 93(13.4,6.35) 94(13.4,6.985) 95(13.4,7.62) 96(13.4,8.255) 97(13.4,8.89) 98(13.4,9.525) 99(13.4,10.16)
  rect 0.38x1.635 smd: 34(-10.16,-13.4) 35(-9.525,-13.4) 36(-8.89,-13.4) 37(-8.255,-13.4) 38(-7.62,-13.4) 39(-6.985,-13.4) 40(-6.35,-13.4) 41(-5.715,-13.4) 42(-5.08,-13.4) 43(-4.445,-13.4) 44(-3.81,-13.4) 45(-3.175,-13.4) 46(-2.54,-13.4) 47(-1.905,-13.4) 48(-1.27,-13.4) 49(-0.635,-13.4) 50(0,-13.4) 51(0.635,-13.4) 52(1.27,-13.4) 53(1.905,-13.4) 54(2.54,-13.4) 55(3.175,-13.4) 56(3.81,-13.4) 57(4.445,-13.4) 58(5.08,-13.4) 59(5.715,-13.4) 60(6.35,-13.4) 61(6.985,-13.4) 62(7.62,-13.4) 63(8.255,-13.4) 64(8.89,-13.4) 65(9.525,-13.4) 66(10.16,-13.4) 100(10.16,13.4) 101(9.525,13.4) 102(8.89,13.4) 103(8.255,13.4) 104(7.62,13.4) 105(6.985,13.4) 106(6.35,13.4) 107(5.715,13.4) 108(5.08,13.4) 109(4.445,13.4) 110(3.81,13.4) 111(3.175,13.4) 112(2.54,13.4) 113(1.905,13.4) 114(1.27,13.4) 115(0.635,13.4) 116(0,13.4) 117(-0.635,13.4) 118(-1.27,13.4) 119(-1.905,13.4) 120(-2.54,13.4) 121(-3.175,13.4) 122(-3.81,13.4) 123(-4.445,13.4) 124(-5.08,13.4) 125(-5.715,13.4) 126(-6.35,13.4) 127(-6.985,13.4) 128(-7.62,13.4) 129(-8.255,13.4) 130(-8.89,13.4) 131(-9.525,13.4) 132(-10.16,13.4)
F.SilkS:
  region: -13.73,10.61 -14.07,11.08 -13.39,11.08
  lines w0.254: -12.12,-10.6 -12.12,-10.67 -14.12,-11.94 -14.12,-12.96 -12.96,-14.12 -11.94,-14.12 -10.67,-12.12 -10.6,-12.12 ; -12.12,10.6 -12.12,10.67 -14.12,11.94 -14.12,12.96 -12.96,14.12 -11.94,14.12 -10.67,12.12 -10.6,12.12 ; 10.6,-12.12 10.67,-12.12 11.94,-14.12 12.96,-14.12 14.12,-12.96 14.12,-11.94 12.12,-10.67 12.12,-10.6 ; 10.6,12.12 10.67,12.12 11.94,14.12 12.96,14.12 14.12,12.96 14.12,11.94 12.12,10.67 12.12,10.6
Top Assembly:
  lines w0.254: -14,-12.9 -12.9,-14 -12,-14 -10.73,-12 10.73,-12 12,-14 12.9,-14 14,-12.9 14,-12 12,-10.73 12,10.73 14,12 14,12.9 12.9,14 12,14 10.73,12 -10.73,12 -12,14 -12.9,14 -14,12.9 -14,12 -12,10.73 -12,-10.73 -14,-12 -14,-12.9
  text "'.Designator'" at -4.047,-0.84 h1
Top Courtyard:
  lines w0.254: -14.47,-14.47 14.47,-14.47 14.47,14.47 -14.47,14.47 -14.47,-14.47
Top Designator:
  text ".Designator" at -7.618,-0.508 h1.52

## PQFP-144_28x28mm_P0.65mm [mm]
pads (144):
  rrect25% 1.75x0.4 smd: 1(-15.125,11.375) 2(-15.125,10.725) 3(-15.125,10.075) 4(-15.125,9.425) 5(-15.125,8.775) 6(-15.125,8.125) 7(-15.125,7.475) 8(-15.125,6.825) 9(-15.125,6.175) 10(-15.125,5.525) 11(-15.125,4.875) 12(-15.125,4.225) 13(-15.125,3.575) 14(-15.125,2.925) 15(-15.125,2.275) 16(-15.125,1.625) 17(-15.125,0.975) 18(-15.125,0.325) 19(-15.125,-0.325) 20(-15.125,-0.975) 21(-15.125,-1.625) 22(-15.125,-2.275) 23(-15.125,-2.925) 24(-15.125,-3.575) 25(-15.125,-4.225) 26(-15.125,-4.875) 27(-15.125,-5.525) 28(-15.125,-6.175) 29(-15.125,-6.825) 30(-15.125,-7.475) 31(-15.125,-8.125) 32(-15.125,-8.775) 33(-15.125,-9.425) 34(-15.125,-10.075) 35(-15.125,-10.725) 36(-15.125,-11.375) 73(15.125,-11.375) 74(15.125,-10.725) 75(15.125,-10.075) 76(15.125,-9.425) 77(15.125,-8.775) 78(15.125,-8.125) 79(15.125,-7.475) 80(15.125,-6.825) 81(15.125,-6.175) 82(15.125,-5.525) 83(15.125,-4.875) 84(15.125,-4.225) 85(15.125,-3.575) 86(15.125,-2.925) 87(15.125,-2.275) 88(15.125,-1.625) 89(15.125,-0.975) 90(15.125,-0.325) 91(15.125,0.325) 92(15.125,0.975) 93(15.125,1.625) 94(15.125,2.275) 95(15.125,2.925) 96(15.125,3.575) 97(15.125,4.225) 98(15.125,4.875) 99(15.125,5.525) 100(15.125,6.175) 101(15.125,6.825) 102(15.125,7.475) 103(15.125,8.125) 104(15.125,8.775) 105(15.125,9.425) 106(15.125,10.075) 107(15.125,10.725) 108(15.125,11.375)
  rrect25% 0.4x1.75 smd: 37(-11.375,-15.125) 38(-10.725,-15.125) 39(-10.075,-15.125) 40(-9.425,-15.125) 41(-8.775,-15.125) 42(-8.125,-15.125) 43(-7.475,-15.125) 44(-6.825,-15.125) 45(-6.175,-15.125) 46(-5.525,-15.125) 47(-4.875,-15.125) 48(-4.225,-15.125) 49(-3.575,-15.125) 50(-2.925,-15.125) 51(-2.275,-15.125) 52(-1.625,-15.125) 53(-0.975,-15.125) 54(-0.325,-15.125) 55(0.325,-15.125) 56(0.975,-15.125) 57(1.625,-15.125) 58(2.275,-15.125) 59(2.925,-15.125) 60(3.575,-15.125) 61(4.225,-15.125) 62(4.875,-15.125) 63(5.525,-15.125) 64(6.175,-15.125) 65(6.825,-15.125) 66(7.475,-15.125) 67(8.125,-15.125) 68(8.775,-15.125) 69(9.425,-15.125) 70(10.075,-15.125) 71(10.725,-15.125) 72(11.375,-15.125) 109(11.375,15.125) 110(10.725,15.125) 111(10.075,15.125) 112(9.425,15.125) 113(8.775,15.125) 114(8.125,15.125) 115(7.475,15.125) 116(6.825,15.125) 117(6.175,15.125) 118(5.525,15.125) 119(4.875,15.125) 120(4.225,15.125) 121(3.575,15.125) 122(2.925,15.125) 123(2.275,15.125) 124(1.625,15.125) 125(0.975,15.125) 126(0.325,15.125) 127(-0.325,15.125) 128(-0.975,15.125) 129(-1.625,15.125) 130(-2.275,15.125) 131(-2.925,15.125) 132(-3.575,15.125) 133(-4.225,15.125) 134(-4.875,15.125) 135(-5.525,15.125) 136(-6.175,15.125) 137(-6.825,15.125) 138(-7.475,15.125) 139(-8.125,15.125) 140(-8.775,15.125) 141(-9.425,15.125) 142(-10.075,15.125) 143(-10.725,15.125) 144(-11.375,15.125)
F.SilkS:
  region: -15,11.835 -15.34,12.305 -14.66,12.305
  lines w0.254: -14.11,-11.835 -14.11,-14.11 -11.835,-14.11 ; -14.11,11.835 -14.11,14.11 -11.835,14.11 ; 11.835,-14.11 14.11,-14.11 14.11,-11.835 ; 11.835,14.11 14.11,14.11 14.11,11.835
Top Assembly:
  lines w0.254: -14,-14 14,-14 14,14 -13,14 -14,13 -14,-14
  text "'.Designator'" at -4.047,-0.84 h1
Top Courtyard:
  lines w0.254: -16.25,-11.83 -14.25,-11.83 -14.25,-14.25 -11.83,-14.25 -11.83,-16.25 11.83,-16.25 11.83,-14.25 14.25,-14.25 14.25,-11.83 16.25,-11.83 16.25,11.83 14.25,11.83 14.25,14.25 11.83,14.25 11.83,16.25 -11.83,16.25 -11.83,14.25 -14.25,14.25 -14.25,11.83 -16.25,11.83 -16.25,-11.83
Top Designator:
  text ".Designator" at -7.618,-0.508 h1.52

## PQFP-160_28x28mm_P0.65mm [mm]
pads (160):
  rrect25% 1.75x0.4 smd: 1(-15.125,12.675) 2(-15.125,12.025) 3(-15.125,11.375) 4(-15.125,10.725) 5(-15.125,10.075) 6(-15.125,9.425) 7(-15.125,8.775) 8(-15.125,8.125) 9(-15.125,7.475) 10(-15.125,6.825) 11(-15.125,6.175) 12(-15.125,5.525) 13(-15.125,4.875) 14(-15.125,4.225) 15(-15.125,3.575) 16(-15.125,2.925) 17(-15.125,2.275) 18(-15.125,1.625) 19(-15.125,0.975) 20(-15.125,0.325) 21(-15.125,-0.325) 22(-15.125,-0.975) 23(-15.125,-1.625) 24(-15.125,-2.275) 25(-15.125,-2.925) 26(-15.125,-3.575) 27(-15.125,-4.225) 28(-15.125,-4.875) 29(-15.125,-5.525) 30(-15.125,-6.175) 31(-15.125,-6.825) 32(-15.125,-7.475) 33(-15.125,-8.125) 34(-15.125,-8.775) 35(-15.125,-9.425) 36(-15.125,-10.075) 37(-15.125,-10.725) 38(-15.125,-11.375) 39(-15.125,-12.025) 40(-15.125,-12.675) 81(15.125,-12.675) 82(15.125,-12.025) 83(15.125,-11.375) 84(15.125,-10.725) 85(15.125,-10.075) 86(15.125,-9.425) 87(15.125,-8.775) 88(15.125,-8.125) 89(15.125,-7.475) 90(15.125,-6.825) 91(15.125,-6.175) 92(15.125,-5.525) 93(15.125,-4.875) 94(15.125,-4.225) 95(15.125,-3.575) 96(15.125,-2.925) 97(15.125,-2.275) 98(15.125,-1.625) 99(15.125,-0.975) 100(15.125,-0.325) 101(15.125,0.325) 102(15.125,0.975) 103(15.125,1.625) 104(15.125,2.275) 105(15.125,2.925) 106(15.125,3.575) 107(15.125,4.225) 108(15.125,4.875) 109(15.125,5.525) 110(15.125,6.175) 111(15.125,6.825) 112(15.125,7.475) 113(15.125,8.125) 114(15.125,8.775) 115(15.125,9.425) 116(15.125,10.075) 117(15.125,10.725) 118(15.125,11.375) 119(15.125,12.025) 120(15.125,12.675)
  rrect25% 0.4x1.75 smd: 41(-12.675,-15.125) 42(-12.025,-15.125) 43(-11.375,-15.125) 44(-10.725,-15.125) 45(-10.075,-15.125) 46(-9.425,-15.125) 47(-8.775,-15.125) 48(-8.125,-15.125) 49(-7.475,-15.125) 50(-6.825,-15.125) 51(-6.175,-15.125) 52(-5.525,-15.125) 53(-4.875,-15.125) 54(-4.225,-15.125) 55(-3.575,-15.125) 56(-2.925,-15.125) 57(-2.275,-15.125) 58(-1.625,-15.125) 59(-0.975,-15.125) 60(-0.325,-15.125) 61(0.325,-15.125) 62(0.975,-15.125) 63(1.625,-15.125) 64(2.275,-15.125) 65(2.925,-15.125) 66(3.575,-15.125) 67(4.225,-15.125) 68(4.875,-15.125) 69(5.525,-15.125) 70(6.175,-15.125) 71(6.825,-15.125) 72(7.475,-15.125) 73(8.125,-15.125) 74(8.775,-15.125) 75(9.425,-15.125) 76(10.075,-15.125) 77(10.725,-15.125) 78(11.375,-15.125) 79(12.025,-15.125) 80(12.675,-15.125) 121(12.675,15.125) 122(12.025,15.125) 123(11.375,15.125) 124(10.725,15.125) 125(10.075,15.125) 126(9.425,15.125) 127(8.775,15.125) 128(8.125,15.125) 129(7.475,15.125) 130(6.825,15.125) 131(6.175,15.125) 132(5.525,15.125) 133(4.875,15.125) 134(4.225,15.125) 135(3.575,15.125) 136(2.925,15.125) 137(2.275,15.125) 138(1.625,15.125) 139(0.975,15.125) 140(0.325,15.125) 141(-0.325,15.125) 142(-0.975,15.125) 143(-1.625,15.125) 144(-2.275,15.125) 145(-2.925,15.125) 146(-3.575,15.125) 147(-4.225,15.125) 148(-4.875,15.125) 149(-5.525,15.125) 150(-6.175,15.125) 151(-6.825,15.125) 152(-7.475,15.125) 153(-8.125,15.125) 154(-8.775,15.125) 155(-9.425,15.125) 156(-10.075,15.125) 157(-10.725,15.125) 158(-11.375,15.125) 159(-12.025,15.125) 160(-12.675,15.125)
F.SilkS:
  region: -15,13.135 -15.34,13.605 -14.66,13.605
  lines w0.254: -14.11,-13.135 -14.11,-14.11 -13.135,-14.11 ; -14.11,13.135 -14.11,14.11 -13.135,14.11 ; 13.135,-14.11 14.11,-14.11 14.11,-13.135 ; 13.135,14.11 14.11,14.11 14.11,13.135
Top Assembly:
  lines w0.254: -14,-14 14,-14 14,14 -13,14 -14,13 -14,-14
  text "'.Designator'" at -4.047,-0.84 h1
Top Courtyard:
  lines w0.254: -16.25,-13.13 -14.25,-13.13 -14.25,-14.25 -13.13,-14.25 -13.13,-16.25 13.13,-16.25 13.13,-14.25 14.25,-14.25 14.25,-13.13 16.25,-13.13 16.25,13.13 14.25,13.13 14.25,14.25 13.13,14.25 13.13,16.25 -13.13,16.25 -13.13,14.25 -14.25,14.25 -14.25,13.13 -16.25,13.13 -16.25,-13.13
Top Designator:
  text ".Designator" at -7.618,-0.508 h1.52

## PQFP-168_28x28mm_P0.65mm [mm]
pads (168):
  rrect25% 1.775x0.4 smd: 1(-15.162,13.325) 2(-15.162,12.675) 3(-15.162,12.025) 4(-15.162,11.375) 5(-15.162,10.725) 6(-15.162,10.075) 7(-15.162,9.425) 8(-15.162,8.775) 9(-15.162,8.125) 10(-15.162,7.475) 11(-15.162,6.825) 12(-15.162,6.175) 13(-15.162,5.525) 14(-15.162,4.875) 15(-15.162,4.225) 16(-15.162,3.575) 17(-15.162,2.925) 18(-15.162,2.275) 19(-15.162,1.625) 20(-15.162,0.975) 21(-15.162,0.325) 22(-15.162,-0.325) 23(-15.162,-0.975) 24(-15.162,-1.625) 25(-15.162,-2.275) 26(-15.162,-2.925) 27(-15.162,-3.575) 28(-15.162,-4.225) 29(-15.162,-4.875) 30(-15.162,-5.525) 31(-15.162,-6.175) 32(-15.162,-6.825) 33(-15.162,-7.475) 34(-15.162,-8.125) 35(-15.162,-8.775) 36(-15.162,-9.425) 37(-15.162,-10.075) 38(-15.162,-10.725) 39(-15.162,-11.375) 40(-15.162,-12.025) 41(-15.162,-12.675) 42(-15.162,-13.325) 85(15.162,-13.325) 86(15.162,-12.675) 87(15.162,-12.025) 88(15.162,-11.375) 89(15.162,-10.725) 90(15.162,-10.075) 91(15.162,-9.425) 92(15.162,-8.775) 93(15.162,-8.125) 94(15.162,-7.475) 95(15.162,-6.825) 96(15.162,-6.175) 97(15.162,-5.525) 98(15.162,-4.875) 99(15.162,-4.225) 100(15.162,-3.575) 101(15.162,-2.925) 102(15.162,-2.275) 103(15.162,-1.625) 104(15.162,-0.975) 105(15.162,-0.325) 106(15.162,0.325) 107(15.162,0.975) 108(15.162,1.625) 109(15.162,2.275) 110(15.162,2.925) 111(15.162,3.575) 112(15.162,4.225) 113(15.162,4.875) 114(15.162,5.525) 115(15.162,6.175) 116(15.162,6.825) 117(15.162,7.475) 118(15.162,8.125) 119(15.162,8.775) 120(15.162,9.425) 121(15.162,10.075) 122(15.162,10.725) 123(15.162,11.375) 124(15.162,12.025) 125(15.162,12.675) 126(15.162,13.325)
  rrect25% 0.4x1.775 smd: 43(-13.325,-15.162) 44(-12.675,-15.162) 45(-12.025,-15.162) 46(-11.375,-15.162) 47(-10.725,-15.162) 48(-10.075,-15.162) 49(-9.425,-15.162) 50(-8.775,-15.162) 51(-8.125,-15.162) 52(-7.475,-15.162) 53(-6.825,-15.162) 54(-6.175,-15.162) 55(-5.525,-15.162) 56(-4.875,-15.162) 57(-4.225,-15.162) 58(-3.575,-15.162) 59(-2.925,-15.162) 60(-2.275,-15.162) 61(-1.625,-15.162) 62(-0.975,-15.162) 63(-0.325,-15.162) 64(0.325,-15.162) 65(0.975,-15.162) 66(1.625,-15.162) 67(2.275,-15.162) 68(2.925,-15.162) 69(3.575,-15.162) 70(4.225,-15.162) 71(4.875,-15.162) 72(5.525,-15.162) 73(6.175,-15.162) 74(6.825,-15.162) 75(7.475,-15.162) 76(8.125,-15.162) 77(8.775,-15.162) 78(9.425,-15.162) 79(10.075,-15.162) 80(10.725,-15.162) 81(11.375,-15.162) 82(12.025,-15.162) 83(12.675,-15.162) 84(13.325,-15.162) 127(13.325,15.162) 128(12.675,15.162) 129(12.025,15.162) 130(11.375,15.162) 131(10.725,15.162) 132(10.075,15.162) 133(9.425,15.162) 134(8.775,15.162) 135(8.125,15.162) 136(7.475,15.162) 137(6.825,15.162) 138(6.175,15.162) 139(5.525,15.162) 140(4.875,15.162) 141(4.225,15.162) 142(3.575,15.162) 143(2.925,15.162) 144(2.275,15.162) 145(1.625,15.162) 146(0.975,15.162) 147(0.325,15.162) 148(-0.325,15.162) 149(-0.975,15.162) 150(-1.625,15.162) 151(-2.275,15.162) 152(-2.925,15.162) 153(-3.575,15.162) 154(-4.225,15.162) 155(-4.875,15.162) 156(-5.525,15.162) 157(-6.175,15.162) 158(-6.825,15.162) 159(-7.475,15.162) 160(-8.125,15.162) 161(-8.775,15.162) 162(-9.425,15.162) 163(-10.075,15.162) 164(-10.725,15.162) 165(-11.375,15.162) 166(-12.025,15.162) 167(-12.675,15.162) 168(-13.325,15.162)
F.SilkS:
  region: -15.025,13.785 -15.365,14.255 -14.685,14.255
  lines w0.254: -14.11,-13.785 -14.11,-14.11 -13.785,-14.11 ; -14.11,13.785 -14.11,14.11 -13.785,14.11 ; 13.785,-14.11 14.11,-14.11 14.11,-13.785 ; 13.785,14.11 14.11,14.11 14.11,13.785
Top Assembly:
  lines w0.254: -14,-14 14,-14 14,14 -13,14 -14,13 -14,-14
  text "'.Designator'" at -4.047,-0.84 h1
Top Courtyard:
  lines w0.254: -16.3,-13.78 -14.25,-13.78 -14.25,-14.25 -13.78,-14.25 -13.78,-16.3 13.78,-16.3 13.78,-14.25 14.25,-14.25 14.25,-13.78 16.3,-13.78 16.3,13.78 14.25,13.78 14.25,14.25 13.78,14.25 13.78,16.3 -13.78,16.3 -13.78,14.25 -14.25,14.25 -14.25,13.78 -16.3,13.78 -16.3,-13.78
Top Designator:
  text ".Designator" at -7.618,-0.508 h1.52

## PQFP-208_28x28mm_P0.5mm [mm]
pads (208):
  rrect25% 1.475x0.3 smd: 1(-14.962,12.75) 2(-14.962,12.25) 3(-14.962,11.75) 4(-14.962,11.25) 5(-14.962,10.75) 6(-14.962,10.25) 7(-14.962,9.75) 8(-14.962,9.25) 9(-14.962,8.75) 10(-14.962,8.25) 11(-14.962,7.75) 12(-14.962,7.25) 13(-14.962,6.75) 14(-14.962,6.25) 15(-14.962,5.75) 16(-14.962,5.25) 17(-14.962,4.75) 18(-14.962,4.25) 19(-14.962,3.75) 20(-14.962,3.25) 21(-14.962,2.75) 22(-14.962,2.25) 23(-14.962,1.75) 24(-14.962,1.25) 25(-14.962,0.75) 26(-14.962,0.25) 27(-14.962,-0.25) 28(-14.962,-0.75) 29(-14.962,-1.25) 30(-14.962,-1.75) 31(-14.962,-2.25) 32(-14.962,-2.75) 33(-14.962,-3.25) 34(-14.962,-3.75) 35(-14.962,-4.25) 36(-14.962,-4.75) 37(-14.962,-5.25) 38(-14.962,-5.75) 39(-14.962,-6.25) 40(-14.962,-6.75) 41(-14.962,-7.25) 42(-14.962,-7.75) 43(-14.962,-8.25) 44(-14.962,-8.75) 45(-14.962,-9.25) 46(-14.962,-9.75) 47(-14.962,-10.25) 48(-14.962,-10.75) 49(-14.962,-11.25) 50(-14.962,-11.75) 51(-14.962,-12.25) 52(-14.962,-12.75) 105(14.962,-12.75) 106(14.962,-12.25) 107(14.962,-11.75) 108(14.962,-11.25) 109(14.962,-10.75) 110(14.962,-10.25) 111(14.962,-9.75) 112(14.962,-9.25) 113(14.962,-8.75) 114(14.962,-8.25) 115(14.962,-7.75) 116(14.962,-7.25) 117(14.962,-6.75) 118(14.962,-6.25) 119(14.962,-5.75) 120(14.962,-5.25) 121(14.962,-4.75) 122(14.962,-4.25) 123(14.962,-3.75) 124(14.962,-3.25) 125(14.962,-2.75) 126(14.962,-2.25) 127(14.962,-1.75) 128(14.962,-1.25) 129(14.962,-0.75) 130(14.962,-0.25) 131(14.962,0.25) 132(14.962,0.75) 133(14.962,1.25) 134(14.962,1.75) 135(14.962,2.25) 136(14.962,2.75) 137(14.962,3.25) 138(14.962,3.75) 139(14.962,4.25) 140(14.962,4.75) 141(14.962,5.25) 142(14.962,5.75) 143(14.962,6.25) 144(14.962,6.75) 145(14.962,7.25) 146(14.962,7.75) 147(14.962,8.25) 148(14.962,8.75) 149(14.962,9.25) 150(14.962,9.75) 151(14.962,10.25) 152(14.962,10.75) 153(14.962,11.25) 154(14.962,11.75) 155(14.962,12.25) 156(14.962,12.75)
  rrect25% 0.3x1.475 smd: 53(-12.75,-14.962) 54(-12.25,-14.962) 55(-11.75,-14.962) 56(-11.25,-14.962) 57(-10.75,-14.962) 58(-10.25,-14.962) 59(-9.75,-14.962) 60(-9.25,-14.962) 61(-8.75,-14.962) 62(-8.25,-14.962) 63(-7.75,-14.962) 64(-7.25,-14.962) 65(-6.75,-14.962) 66(-6.25,-14.962) 67(-5.75,-14.962) 68(-5.25,-14.962) 69(-4.75,-14.962) 70(-4.25,-14.962) 71(-3.75,-14.962) 72(-3.25,-14.962) 73(-2.75,-14.962) 74(-2.25,-14.962) 75(-1.75,-14.962) 76(-1.25,-14.962) 77(-0.75,-14.962) 78(-0.25,-14.962) 79(0.25,-14.962) 80(0.75,-14.962) 81(1.25,-14.962) 82(1.75,-14.962) 83(2.25,-14.962) 84(2.75,-14.962) 85(3.25,-14.962) 86(3.75,-14.962) 87(4.25,-14.962) 88(4.75,-14.962) 89(5.25,-14.962) 90(5.75,-14.962) 91(6.25,-14.962) 92(6.75,-14.962) 93(7.25,-14.962) 94(7.75,-14.962) 95(8.25,-14.962) 96(8.75,-14.962) 97(9.25,-14.962) 98(9.75,-14.962) 99(10.25,-14.962) 100(10.75,-14.962) 101(11.25,-14.962) 102(11.75,-14.962) 103(12.25,-14.962) 104(12.75,-14.962) 157(12.75,14.962) 158(12.25,14.962) 159(11.75,14.962) 160(11.25,14.962) 161(10.75,14.962) 162(10.25,14.962) 163(9.75,14.962) 164(9.25,14.962) 165(8.75,14.962) 166(8.25,14.962) 167(7.75,14.962) 168(7.25,14.962) 169(6.75,14.962) 170(6.25,14.962) 171(5.75,14.962) 172(5.25,14.962) 173(4.75,14.962) 174(4.25,14.962) 175(3.75,14.962) 176(3.25,14.962) 177(2.75,14.962) 178(2.25,14.962) 179(1.75,14.962) 180(1.25,14.962) 181(0.75,14.962) 182(0.25,14.962) 183(-0.25,14.962) 184(-0.75,14.962) 185(-1.25,14.962) 186(-1.75,14.962) 187(-2.25,14.962) 188(-2.75,14.962) 189(-3.25,14.962) 190(-3.75,14.962) 191(-4.25,14.962) 192(-4.75,14.962) 193(-5.25,14.962) 194(-5.75,14.962) 195(-6.25,14.962) 196(-6.75,14.962) 197(-7.25,14.962) 198(-7.75,14.962) 199(-8.25,14.962) 200(-8.75,14.962) 201(-9.25,14.962) 202(-9.75,14.962) 203(-10.25,14.962) 204(-10.75,14.962) 205(-11.25,14.962) 206(-11.75,14.962) 207(-12.25,14.962) 208(-12.75,14.962)
F.SilkS:
  region: -14.85,13.16 -15.19,13.63 -14.51,13.63
  lines w0.254: -14.11,-13.16 -14.11,-14.11 -13.16,-14.11 ; -14.11,13.16 -14.11,14.11 -13.16,14.11 ; 13.16,-14.11 14.11,-14.11 14.11,-13.16 ; 13.16,14.11 14.11,14.11 14.11,13.16
Top Assembly:
  lines w0.254: -14,-14 14,-14 14,14 -13,14 -14,13 -14,-14
  text "'.Designator'" at -4.047,-0.84 h1
Top Courtyard:
  lines w0.254: -15.95,-13.15 -14.25,-13.15 -14.25,-14.25 -13.15,-14.25 -13.15,-15.95 13.15,-15.95 13.15,-14.25 14.25,-14.25 14.25,-13.15 15.95,-13.15 15.95,13.15 14.25,13.15 14.25,14.25 13.15,14.25 13.15,15.95 -13.15,15.95 -13.15,14.25 -14.25,14.25 -14.25,13.15 -15.95,13.15 -15.95,-13.15
Top Designator:
  text ".Designator" at -7.618,-0.508 h1.52